# Altium footprint library ESP32-HWE-Dev.PcbLib: 10 footprints
Each footprint in its own frame and in the unit in brackets; x right, y up, seen from the top. Pads: shape width x height; smd on the part's side, far side on the other; paste and mask are expansions set on the pad; w line width, h text height; cw(c..) or ccw(c..) is an arc to the next point about the centre after c.
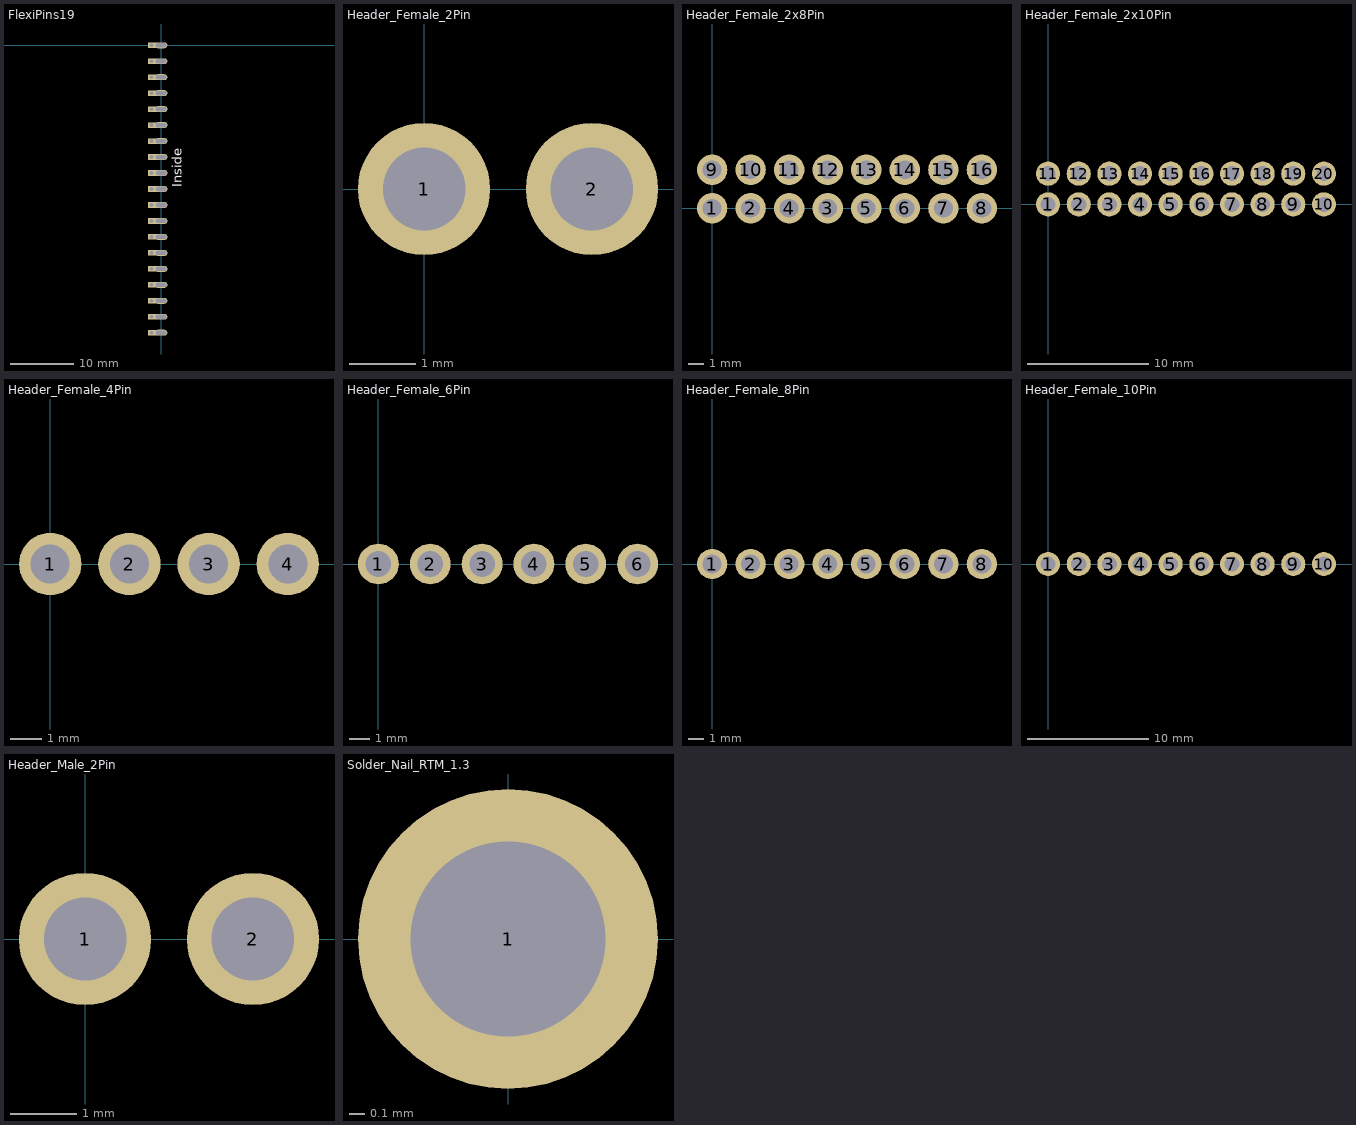
[diagram p0: the footprints below, top view; thin cyan lines are the x and y axes]

## FlexiPins19 [mm]
pads (38):
  rect 1.5x0.9 hole 0.6 copper offset 0.2,0: 1(-1.55,0) 2(-1.55,-2.54) 3(-1.55,-5.08) 4(-1.55,-7.62) 5(-1.55,-10.16) 6(-1.55,-12.7) 7(-1.55,-15.24) 8(-1.55,-17.78) 9(-1.55,-20.32) 10(-1.55,-22.86) 11(-1.55,-25.4) 12(-1.55,-27.94) 13(-1.55,-30.48) 14(-1.55,-33.02) 15(-1.55,-35.56) 16(-1.55,-38.1) 17(-1.55,-40.64) 18(-1.55,-43.18) 19(-1.55,-45.72)
  oval 2x0.95 hole 0.65 slot 1.7 at 0 deg: 1(0,0) 2(0,-2.54) 3(0,-5.08) 4(0,-7.62) 5(0,-10.16) 6(0,-12.7) 7(0,-15.24) 8(0,-17.78) 9(0,-20.32) 10(0,-22.86) 11(0,-25.4) 12(0,-27.94) 13(0,-30.48) 14(0,-33.02) 15(0,-35.56) 16(0,-38.1) 17(0,-40.64) 18(0,-43.18) 19(0,-45.72)
Top Overlay:
  text "Inside" at 3.276,-22.606 h1.52
3D body "flexypin.step": height 4.07, standoff -6.32, extent -3.593,-45.92 0.872,-45.52
3D body "flexypin.step": height 4.07, standoff -6.32, extent -3.593,-43.38 0.872,-42.98
3D body "flexypin.step": height 4.07, standoff -6.32, extent -3.593,-40.84 0.872,-40.44
3D body "flexypin.step": height 4.07, standoff -6.32, extent -3.593,-38.3 0.872,-37.9
3D body "flexypin.step": height 4.07, standoff -6.32, extent -3.593,-35.76 0.872,-35.36
3D body "flexypin.step": height 4.07, standoff -6.32, extent -3.593,-33.22 0.872,-32.82
3D body "flexypin.step": height 4.07, standoff -6.32, extent -3.593,-30.68 0.872,-30.28
3D body "flexypin.step": height 4.07, standoff -6.32, extent -3.593,-28.14 0.872,-27.74
3D body "flexypin.step": height 4.07, standoff -6.32, extent -3.593,-25.6 0.872,-25.2
3D body "flexypin.step": height 4.07, standoff -6.32, extent -3.593,-23.06 0.872,-22.66
3D body "flexypin.step": height 4.07, standoff -6.32, extent -3.593,-20.52 0.872,-20.12
3D body "flexypin.step": height 4.07, standoff -6.32, extent -3.593,-17.98 0.872,-17.58
3D body "flexypin.step": height 4.07, standoff -6.32, extent -3.593,-15.44 0.872,-15.04
3D body "flexypin.step": height 4.07, standoff -6.32, extent -3.593,-12.9 0.872,-12.5
3D body "flexypin.step": height 4.07, standoff -6.32, extent -3.593,-10.36 0.872,-9.96
3D body "flexypin.step": height 4.07, standoff -6.32, extent -3.593,-7.82 0.872,-7.42
3D body "flexypin.step": height 4.07, standoff -6.32, extent -3.593,-5.28 0.872,-4.88
3D body "flexypin.step": height 4.07, standoff -6.32, extent -3.593,-2.74 0.872,-2.34
3D body "flexypin.step": height 4.07, standoff -6.32, extent -3.593,-0.2 0.872,0.2

## Header_Female_2Pin [mm]
pads (2):
  round 2 hole 1.25: 1(0,0) 2(2.54,0)
3D body "SSQ-102-01-T-S.stp": height 8.51, standoff -2.64, extent -1.525,-1.205 4.065,1.205

## Header_Female_2x8Pin [mm]
pads (16):
  round 2 hole 1.25: 1(0,0) 2(2.54,0) 3(7.62,0) 4(5.08,0) 5(10.16,0) 6(12.7,0) 7(15.24,0) 8(17.78,0) 9(0,2.54) 10(2.54,2.54) 11(5.08,2.54) 12(7.62,2.54) 13(10.16,2.54) 14(12.7,2.54) 15(15.24,2.54) 16(17.78,2.54)
3D body "929975-01-08-RK.stp": height 8.38, standoff -3.43, extent -1.27,-1.27 19.05,3.81

## Header_Female_2x10Pin [mm]
pads (20):
  round 2 hole 1.25: 1(0,0) 2(2.54,0) 3(5.08,0) 4(7.62,0) 5(10.16,0) 6(12.7,0) 7(15.24,0) 8(17.78,0) 9(20.32,0) 10(22.86,0) 11(0,2.54) 12(2.54,2.54) 13(5.08,2.54) 14(7.62,2.54) 15(10.16,2.54) 16(12.7,2.54) 17(15.24,2.54) 18(17.78,2.54) 19(20.32,2.54) 20(22.86,2.54)
3D body "SSQ-110-01-G-D.stp": height 8.51, standoff -2.64, extent -1.525,-1.205 24.385,3.745

## Header_Female_4Pin [mm]
pads (4):
  round 2 hole 1.25: 1(0,0) 2(2.54,0) 3(5.08,0) 4(7.62,0)
3D body "SSQ-104-01-T-S.stp": height 8.51, standoff -2.64, extent -1.525,-1.205 9.145,1.205

## Header_Female_6Pin [mm]
pads (6):
  round 2 hole 1.25: 1(0,0) 2(2.54,0) 3(5.08,0) 4(7.62,0) 5(10.16,0) 6(12.7,0)
3D body "61300611821.stp": height 8.65, standoff -3.25, extent -1.52,-1.25 14.22,1.25

## Header_Female_8Pin [mm]
pads (8):
  round 2 hole 1.25: 1(0,0) 2(2.54,0) 3(5.08,0) 4(7.62,0) 5(10.16,0) 6(12.7,0) 7(15.24,0) 8(17.78,0)
3D body "SSQ-108-03-G-S.stp": height 8.51, standoff -10, extent -1.525,-1.205 19.305,1.205

## Header_Female_10Pin [mm]
pads (10):
  round 2 hole 1.25: 1(0,0) 2(2.54,0) 3(5.08,0) 4(7.62,0) 5(10.16,0) 6(12.7,0) 7(15.24,0) 8(17.78,0) 9(20.32,0) 10(22.86,0)
3D body "61301011821.stp": height 8.5, standoff -3.1, extent -1.52,-1.25 24.38,1.25

## Header_Male_2Pin [mm]
pads (2):
  round 2 hole 1.25: 1(0,0) 2(2.54,0)
3D body "TSW-102-07-G-S.stp": height 9.27, standoff -2.92, extent -1.333,-1.27 3.873,1.27

## Solder_Nail_RTM_1.3 [mm]
pads (1):
  round 2 hole 1.3: 1(0,0)
3D body "2381-0-00-15-00-00-33-0.stp": height 4.04, standoff -5, extent -1.016,-1.009 1.016,1.009